# Altium footprint library Passive.PcbLib: 21 footprints (part 2 of 2)
Each footprint in its own frame and in the unit in brackets; x right, y up, seen from the top. Pads: shape width x height; smd on the part's side, far side on the other; paste and mask are expansions set on the pad; w line width, h text height; cw(c..) or ccw(c..) is an arc to the next point about the centre after c.
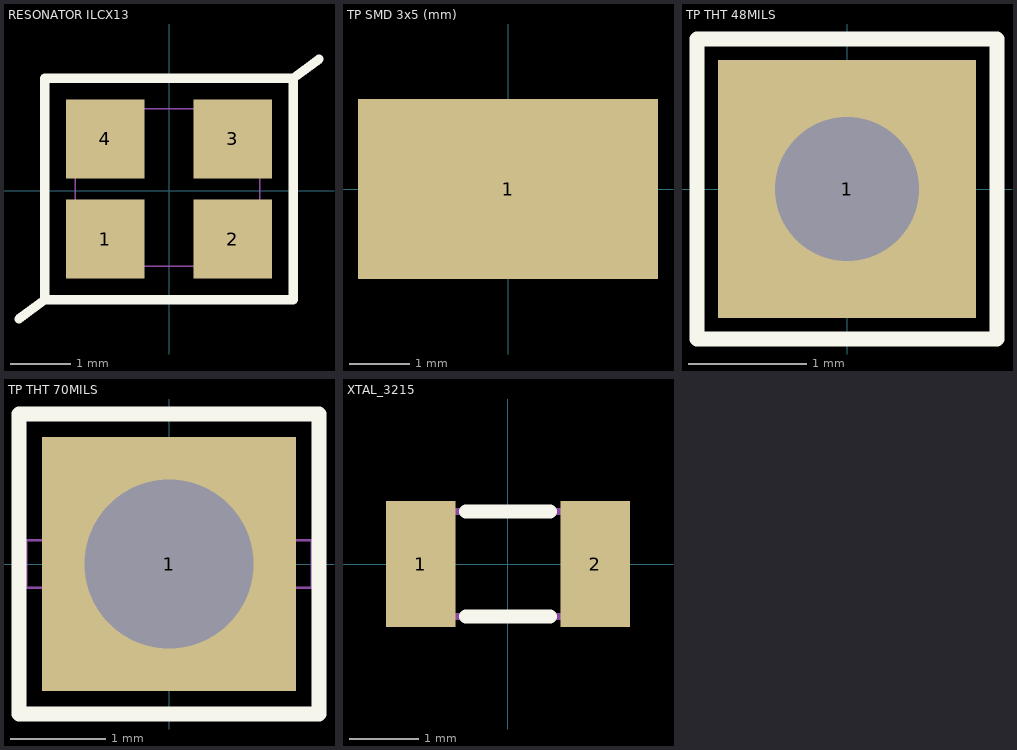
[diagram p1: the footprints below, top view; thin cyan lines are the x and y axes]

## RESONATOR ILCX13 [mm] "RESONATOR, ILCX13, 20MHz"
height 0.45
pads (4):
  rect 1.3x1.3 smd: 1(-1.05,-0.8) 2(1.05,-0.8) 3(1.05,0.85) 4(-1.05,0.85)
Top Overlay:
  lines w0.152: -2.474,-2.118 -2.05,-1.8 ; 2.474,2.168 2.05,1.85 ; -2.05,-1.8 -2.05,1.85 2.05,1.85 ; -2.05,-1.8 2.05,-1.8 2.05,1.85
Mechanical 13:
  lines w0.025: -1.55,-1.25 1.5,-1.25 1.5,1.35 0.737,1.35 -0.787,1.35 -1.55,1.35 -1.55,-1.25
3D body: height 0.55, standoff 0, extent -1.55,-1.25 1.5,1.35

## TP SMD 3x5 (mm) [mm]
pads (1):
  rect 5x3 smd: 1(0,0)

## TP THT 48MILS [mil]
pads (1):
  rect 86x86 hole 48: 1(0,0)
Top Overlay:
  lines w5: -50,-50 50,-50 50,50 -50,50 -50,-50

## TP THT 70MILS [mil]
height 275.59
pads (1):
  rect 105x105 hole 70: 1(0,0)
Top Overlay:
  lines w6: -62,-62 -62,15.94 -62,62 62,62 62,-62 -62,-62
Mechanical 1:
  lines w1: -59.06,-9.84 -59.06,9.84 59.06,9.84 59.06,-9.84 -59.06,-9.84
3D body: height 169.29, standoff 0, extent -59.06,-9.84 59.06,9.84

## XTAL_3215 [mm] "XTAL SMD 3.2 x 1.5 mm"
height 0.8
pads (2):
  rect 1x1.8 smd: 1(-1.25,0) 2(1.25,0)
Top Overlay:
  lines w0.2: -0.6,-0.75 0.6,-0.75 ; -0.6,0.75 0.6,0.75
Mechanical 3:
  lines w0.1: -1.6,-0.55 cw(c-1.6,-0.75) -1.4,-0.75 1.4,-0.75 cw(c1.6,-0.75) 1.6,-0.55 1.6,0.55 cw(c1.6,0.75) 1.4,0.75 -1.4,0.75 cw(c-1.6,0.75) -1.6,0.55 -1.6,-0.55
3D body: height 0.81, standoff 0.15, extent -1.2,-0.6 1.2,0.6
3D body "User Library-Siward_SX3215.step": height 0.81, standoff 0, extent -1.6,-0.75 1.6,0.75